# EAGLE library part ICSP (library AVR micom)
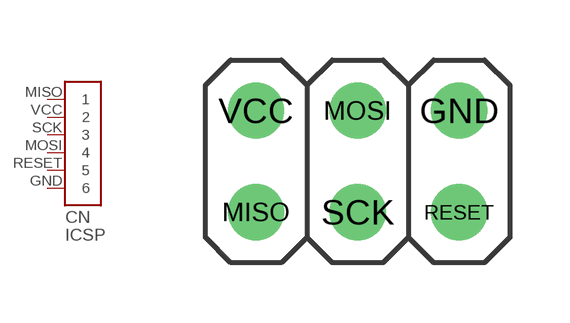
[diagram p3: symbol with the pads of ICSP-2.54PITCH-2*3; footprint ICSP-2.54PITCH-2*3]

Designator prefix CN

## ICSP2.54-2*3  [ICSP-2.54PITCH-2*3]
GND  6  pas
MISO  1  pas
MOSI  4  pas
RESET  5  pas
SCK  3  pas
VCC  2  pas

## Footprint ICSP-2.54PITCH-2*3 (pad centres in mm)
drill 0.9: GND 2.54,1.27; MISO -2.54,-1.27; MOSI 0,1.27; RESET 2.54,-1.27; SCK 0,-1.27; VCC -2.54,1.27